# EAGLE library part CYRAS_W25X40CL_SOIC8 (library DLOCK_DAUGHTER_CARD_V0.2)
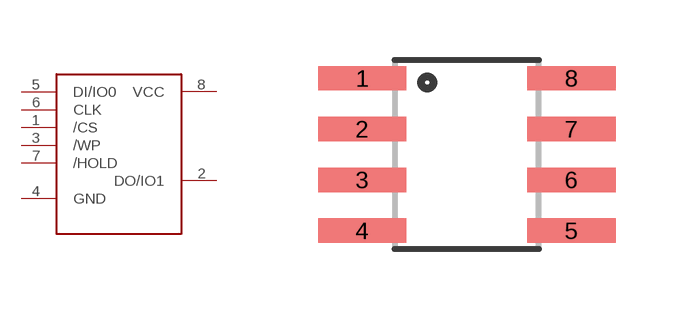
[diagram p3: symbol with the pads of CYRAS_SOIC_8; footprint CYRAS_SOIC_8]

Designator prefix -

## CYRAS_W25X40CL_SOIC8  [CYRAS_SOIC_8]
1  /CS
2  DO/IO1
3  /WP
4  GND
5  DI/IO0
6  CLK
7  /HOLD
8  VCC

## Footprint CYRAS_SOIC_8 (pad centres in mm)
smd 2.21 x 0.61: 1 -2.616,1.905; 2 -2.616,0.635; 3 -2.616,-0.635; 4 -2.616,-1.905; 5 2.616,-1.905; 6 2.616,-0.635; 7 2.616,0.635; 8 2.616,1.905